# EAGLE library part 61400826021 (library Wurth_Elektronik_Electromechanic_Input-Output_Connectors_rev16a)
WR-COM Horizontal Dual Stacked USB Type A=>Code : Con_I-O_COM_USB-2.0_A_61400826021 <http://katalog.we-online.de/media/images/eican/Con_I-O_COM_USB-2.0_A_61400826021_pf2.jpg> Details see: http://katalog.we-online.de/en/em/614_008_260_21 Created 2014-07-09, Karrer Zheng 2014 (C) Würth Elektronik
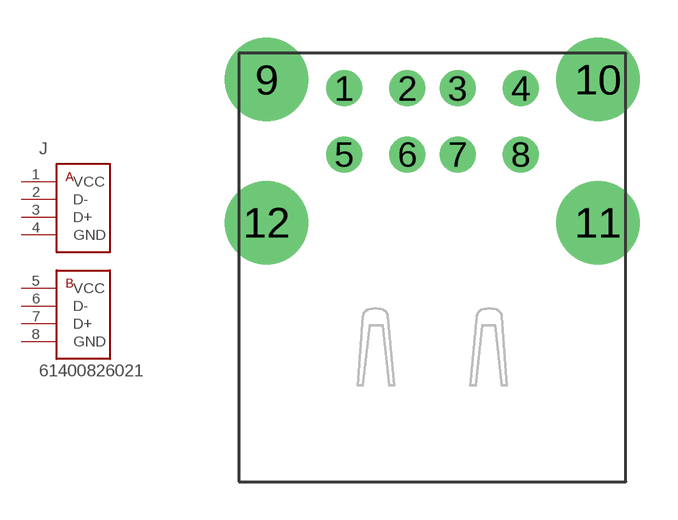
[diagram p66: symbol with the pads of 61400826021; footprint 61400826021]

Designator prefix J

## 61400826021  [61400826021]
1  VCC
2  D-
3  D+
4  GND
5  VCC
6  D-
7  D+
8  GND

## Footprint 61400826021 (pad centres in mm)
WR-COM Horizontal Dual Stacked USB Type A
drill 0.92: 1 -3.5,5.33; 2 -1,5.33; 3 1,5.33; 4 3.5,5.33; 5 -3.5,2.71; 6 -1,2.71; 7 1,2.71; 8 3.5,2.71
drill 2.3: 9 -6.57,5.68; 10 6.57,5.68; 11 6.57,0; 12 -6.57,0